# EAGLE library part ANALOG_DEVICES_INC_AD8138ARZ (library Upverter Library)
ADC Driver IC Data Acquisition 8-SOIC
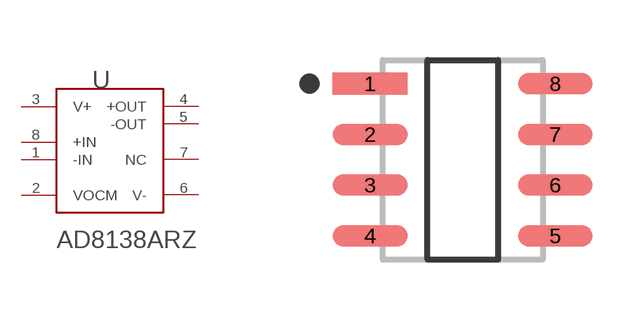
[diagram p0: symbol with the pads of ANALOG_DEVICES_INC_AD8138ARZ_0; footprint ANALOG_DEVICES_INC_AD8138ARZ_0]

Designator prefix U

## ANALOG_DEVICES_INC_AD8138ARZANALOG_DEVICES_INC_AD8138ARZ_0_0 (MF: Analog Devices Inc; MPN: AD8138ARZ; centroid_not_specified: No; datasheet: http://www.analog.com/media/en/technical-documentation/data-sheets/AD8138.pdf; digikey_description: IC AMP DIFF LDIST LP 95MA 8SOIC; digikey_part_number: AD8138ARZ-ND; ipc_land_pattern_name: SOIC127P600X155-8; lead_free: yes; mouser_part_number: 584-AD8138ARZ; package: SOIC8; prefix: U; rohs: yes; temperature_range_high: +85°C; temperature_range_low: -40°C)  [ANALOG_DEVICES_INC_AD8138ARZ_0]
1  -IN
2  VOCM
3  V+
4  +OUT
5  -OUT
6  V-
7  NC
8  +IN

## Footprint ANALOG_DEVICES_INC_AD8138ARZ_0 (pad centres in mm)
ADC Driver IC Data Acquisition 8-SOIC
smd 1.874 x 0.542: 1 -2.316,1.905; 2 -2.316,0.635; 3 -2.316,-0.635; 4 -2.316,-1.905; 5 2.316,-1.905; 6 2.316,-0.635; 7 2.316,0.635; 8 2.316,1.905